# Altium footprint library SparkFun-Connectors.PCBLIB: 305 footprints (part 17 of 20)
Each footprint in its own frame and in the unit in brackets; x right, y up, seen from the top. Pads: shape width x height; smd on the part's side, far side on the other; paste and mask are expansions set on the pad; w line width, h text height; cw(c..) or ccw(c..) is an arc to the next point about the centre after c.
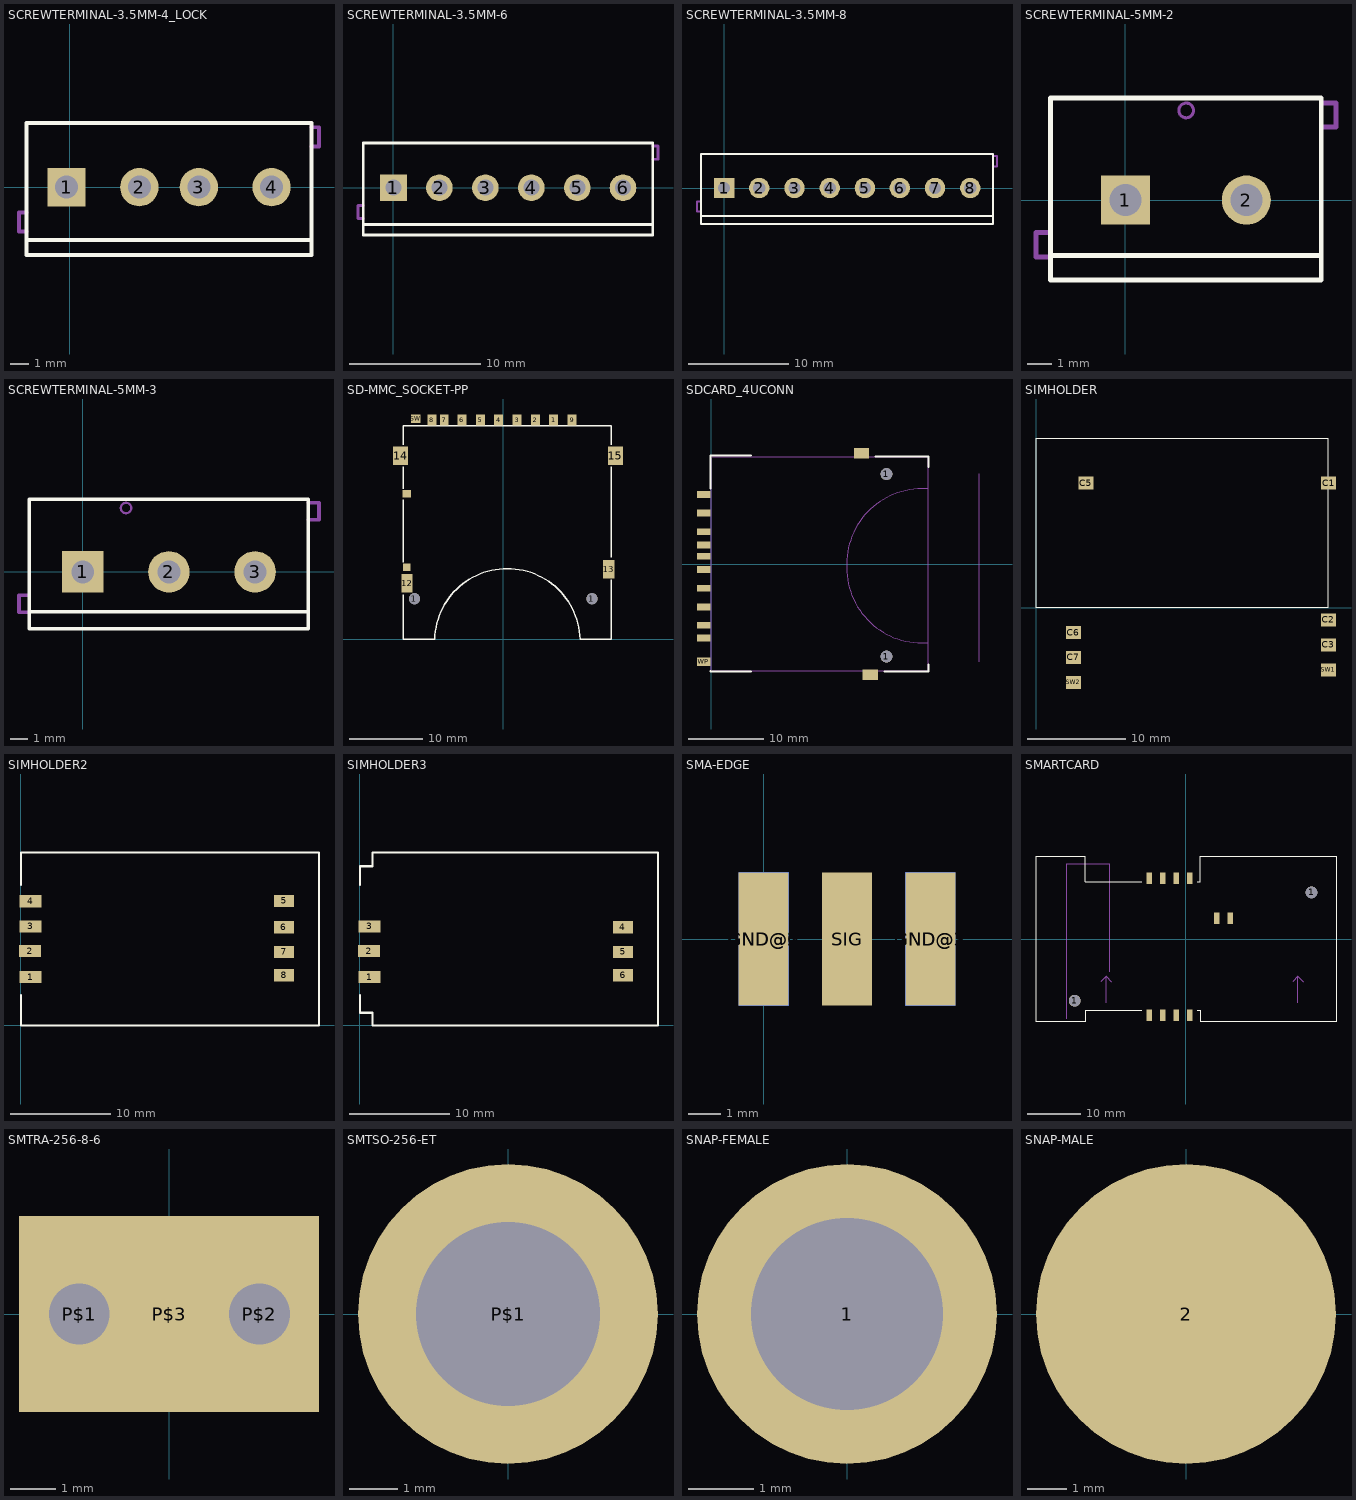
[diagram p16: the footprints below, top view; thin cyan lines are the x and y axes]

## SCREWTERMINAL-3.5MM-4_LOCK [mil]
pads (4):
  rect 80x80 hole 48: 1(-7,0)
  round 80 hole 48: 2(145,0) 3(269,0) 4(421,0)
Top Overlay:
  lines w8: -90.55,-110.24 -90.55,-141.73 504,-141.73 504,-110.24 ; -90.55,-110.24 -90.55,134 504,134 504,-110.24 ; -90.55,-110.24 504,-110.24
Mechanical 16:
  circle w1: c0,0 r17
  circle w1: c138,0 r17
  circle w1: c276,0 r17
  circle w1: c414,0 r17
  lines w8: -90.55,-92.52 -106.3,-92.52 -106.3,-53.15 -90.55,-53.15 ; 504,85 520,85 520,125 504,125

## SCREWTERMINAL-3.5MM-6 [mil]
pads (6):
  rect 80x80 hole 48: 1(0,0)
  round 80 hole 48: 2(138,0) 3(276,0) 4(414,0) 5(552,0) 6(689,0)
Top Overlay:
  lines w8: -90.55,-110.24 -90.55,-141.73 778,-141.73 778,-110.24 ; -90.55,-110.24 -90.55,134 778,134 778,-110.24 ; -90.55,-110.24 778,-110.24
Mechanical 16:
  lines w8: -90.55,-92.52 -106.3,-92.52 -106.3,-53.15 -90.55,-53.15 ; 778,85 794,85 794,125 778,125

## SCREWTERMINAL-3.5MM-8 [mil]
pads (8):
  rect 80x80 hole 48: 1(0,0)
  round 80 hole 48: 2(138,0) 3(276,0) 4(414,0) 5(552,0) 6(689,0) 7(827,0) 8(965,0)
Top Overlay:
  lines w8: -90.55,-110.24 -90.55,-141.73 1054,-141.73 1054,-110.24 ; -90.55,-110.24 -90.55,134 1054,134 1054,-110.24 ; -90.55,-110.24 1054,-110.24
Mechanical 16:
  lines w8: -90.55,-92.52 -106.3,-92.52 -106.3,-53.15 -90.55,-53.15 ; 1054,85 1070,85 1070,125 1054,125

## SCREWTERMINAL-5MM-2 [mil]
pads (2):
  rect 80x80 hole 52: 1(0,0)
  round 80 hole 52: 2(197,0)
Top Overlay:
  lines w8: -122.05,-90.55 -122.05,-129.92 319,-129.92 319,-90.55 ; -122.05,-90.55 -122.05,166 319,166 319,-90.55 ; -122.05,-90.55 319,-90.55
Mechanical 16:
  circle w5: c99,146 r12
  lines w8: -122.05,-92.52 -145.67,-92.52 -145.67,-53.15 -122.05,-53.15 ; 319,119 343,119 343,158 319,158

## SCREWTERMINAL-5MM-3 [mil]
pads (3):
  rect 95x95 hole 52: 1(0,0)
  round 95 hole 52: 2(197,0) 3(394,0)
Top Overlay:
  lines w8: -122.05,-90.55 -122.05,-129.92 516,-129.92 516,-90.55 ; -122.05,-90.55 -122.05,166 516,166 516,-90.55 ; -122.05,-90.55 516,-90.55
Mechanical 16:
  circle w5: c99,146 r12
  lines w8: -122.05,-92.52 -145.67,-92.52 -145.67,-53.15 -122.05,-53.15 ; 516,119 540,119 540,158 516,158

## SD-MMC_SOCKET-PP [mil]
pads (18):
  round 60 hole 60: 1(-476.38,217) 1(477,217)
  rect 48x60 smd: 1(271,1176) 2(173,1176) 3(75,1176) 4(-24.41,1176) 5(-122.83,1176) 6(-221.26,1176) 7(-316.54,1176) 8(-383,1176) 9(370,1176)
  rect 60x99 smd: 12(-515.75,300) 13(567,375)
  rect 79x99 smd: 14(-551.18,985) 15(603,985)
  rect 46x40 smd: CD(-518.9,780)
  rect 52x44 smd: SW(-470,1183)
  rect 40x42 smd: WP(-518.9,386)
Top Overlay:
  lines w8: -535.43,237 -535.43,0 -367.72,0 cw(c22.64,-11.71) 413,0 581,0 581,320 ; -535.43,414 -535.43,749 ; -535.43,808 -535.43,926 ; -535.43,1044 -535.43,1146 581,1146 581,1044 ; 581,440 581,926

## SDCARD_4UCONN [mil]
pads (15):
  rect 71x36 smd: 1(-39.37,267) 2(-39.37,169) 3(-39.37,100) 4(-39.37,-28.74) 5(-39.37,-127.17) 6(-39.37,-225.59) 7(-39.37,-320.87) 8(-39.37,-387.8) 9(-39.37,365) CD(-39.37,41)
  round 62 hole 62: 1(918,-485.04) 1(918,471)
  rect 79x56 smd: SH@1(788,581) SH@2(833,-580.71)
  rect 71x44 smd: WP(-39.37,-511.81)
Top Overlay:
  lines w10: -3.74,-560.55 -3.74,-564.06 207,-564.06 ; -3.74,395 -3.74,568 207,568 ; 861,564 1138,564 1138,508 ; 906,-564.06 1138,-564.06 1138,-525.55
Mechanical 16:
  lines w5: 1402,-511.81 1402,473 ; 1134,-413.39 1134,-314.96 1134,394 ; 1134,-413.39 1134,-561.02 0,-561.02 0,562 1134,562 1134,394 ; 1134,-413.39 1103,-413.39 cw(c1102.85,-19.54) 709,-19.68 709,0 cw(c1103,0) 1103,394 1134,394
  text "card lock position" at 1375,-366.14 h77.5

## SIMHOLDER [mil]
pads (8):
  rect 60x52 smd: C1(1174,500) C2(1173,-49.61) C3(1173,-150) C5(200,500) C6(150,-100) C7(150,-200) SW1(1173,-250) SW2(150,-300)
Top Overlay:
  lines w5: 0,0 0,680 1170,680 1170,0 0,0

## SIMHOLDER2 [mil]
pads (8):
  rect 87x48 smd: 1(38,190) 2(36,292) 3(38,389) 4(38,488)
  rect 79x48 smd: 5(1033,489) 6(1032,386) 7(1033,289) 8(1033,197)
Top Overlay:
  lines w8: 0,119 0,0 1170,0 1170,679 0,679 0,552

## SIMHOLDER3 [mil]
pads (6):
  rect 87x48 smd: 1(38,190) 2(36,292) 3(38,389)
  rect 79x48 smd: 4(1032,386) 5(1033,289) 6(1033,197)
Top Overlay:
  lines w8: 0,119 0,50 50,50 50,0 1170,0 1170,679 50,679 ; 0,552 0,625 50,625 50,675

## SMA-EDGE [mil]
pads (5):
  rect 60x160 smd: GND@0(0,0) GND@1(200,0) SIG(100,0)
  rect 60x160 smd far side: GND@2(0,0) GND@3(200,0)

## SMARTCARD [mil]
pads (12):
  round 87 hole 87: 1(-822.44,-455.51) 1(928,345)
  rect 40x83 smd: C1(-272.44,449) C2(-172.44,449) C3(-72.44,449) C4(28,449) C5(-272.44,-562.99) C6(-172.44,-562.99) C7(-72.44,-562.99) C8(28,-562.99) P1(228,154) P2(328,154)
Top Overlay:
  lines w8: -326.38,-525.59 -743.7,-525.59 -743.7,-612.2 -1108.27,-612.2 -1108.27,613 -743.7,613 -743.7,422 -326.38,422 ; 84,-525.59 107,-525.59 107,-612.2 1109,-612.2 1109,613 107,613 107,422 84,422
Mechanical 16:
  lines w5: -885.83,-590.55 -885.83,552 -562.99,552 -562.99,-240.55
  lines w8: -629.92,-314.96 -590.55,-275.59 ; -590.55,-472.44 -590.55,-275.59 ; -551.18,-314.96 -590.55,-275.59 ; 788,-314.96 827,-275.59 ; 827,-472.44 827,-275.59 ; 867,-314.96 827,-275.59
  text "Card inserts this direction, up side down" at -570,-480 h62
  text "Card Mag Stripe" at -710,-260 h62

## SMTRA-256-8-6 [mil]
pads (3):
  round 79.5 hole 53: P$1(-78.5,0) P$2(79,0)
  rect 262x171 smd: P$3(0,0)
Top Paste:
  rectangle: -130,30 130,80
  rectangle: -40,20 40,30
  rectangle: -40,-40 40,-30
  rectangle: -130,-80 130,-30
  rectangle: -40,-30 40,-20
  rectangle: 110,20 130,30
  rectangle: 110,-30 130,-20
  rectangle: -130,-30 -110,-20
  rectangle: -130,20 -110,30

## SMTSO-256-ET [mil]
pads (1):
  round 244 hole 150: P$1(0,0)
Top Paste:
  lines w40: -90,-40 ccw(c0,0) -40,-90 ; -90,40 cw(c0,0) -40,90 ; 40,-90 ccw(c0,0) 90,-40 ; 40,90 cw(c0,0) 90,40
Mechanical 16:
  circle w5: c0,0 r40

## SNAP-FEMALE [mil]
pads (1):
  round 180 hole 115: 1(0,0)
Top Layer:
  region: 0,0 10,0 10,10 0,10
Top Paste:
  region: 0,0 10,0 10,10 0,10
Top Solder:
  region: 0,0 10,0 10,10 0,10
Mechanical 8:
  region: 0,0 10,0 10,10 0,10

## SNAP-MALE [mil]
pads (1):
  rrect100% 300x300 smd: 2(0,0)